# Altium integrated library Microchip Mixed Signal.IntLib: 1063 symbols (part 5 of 28)
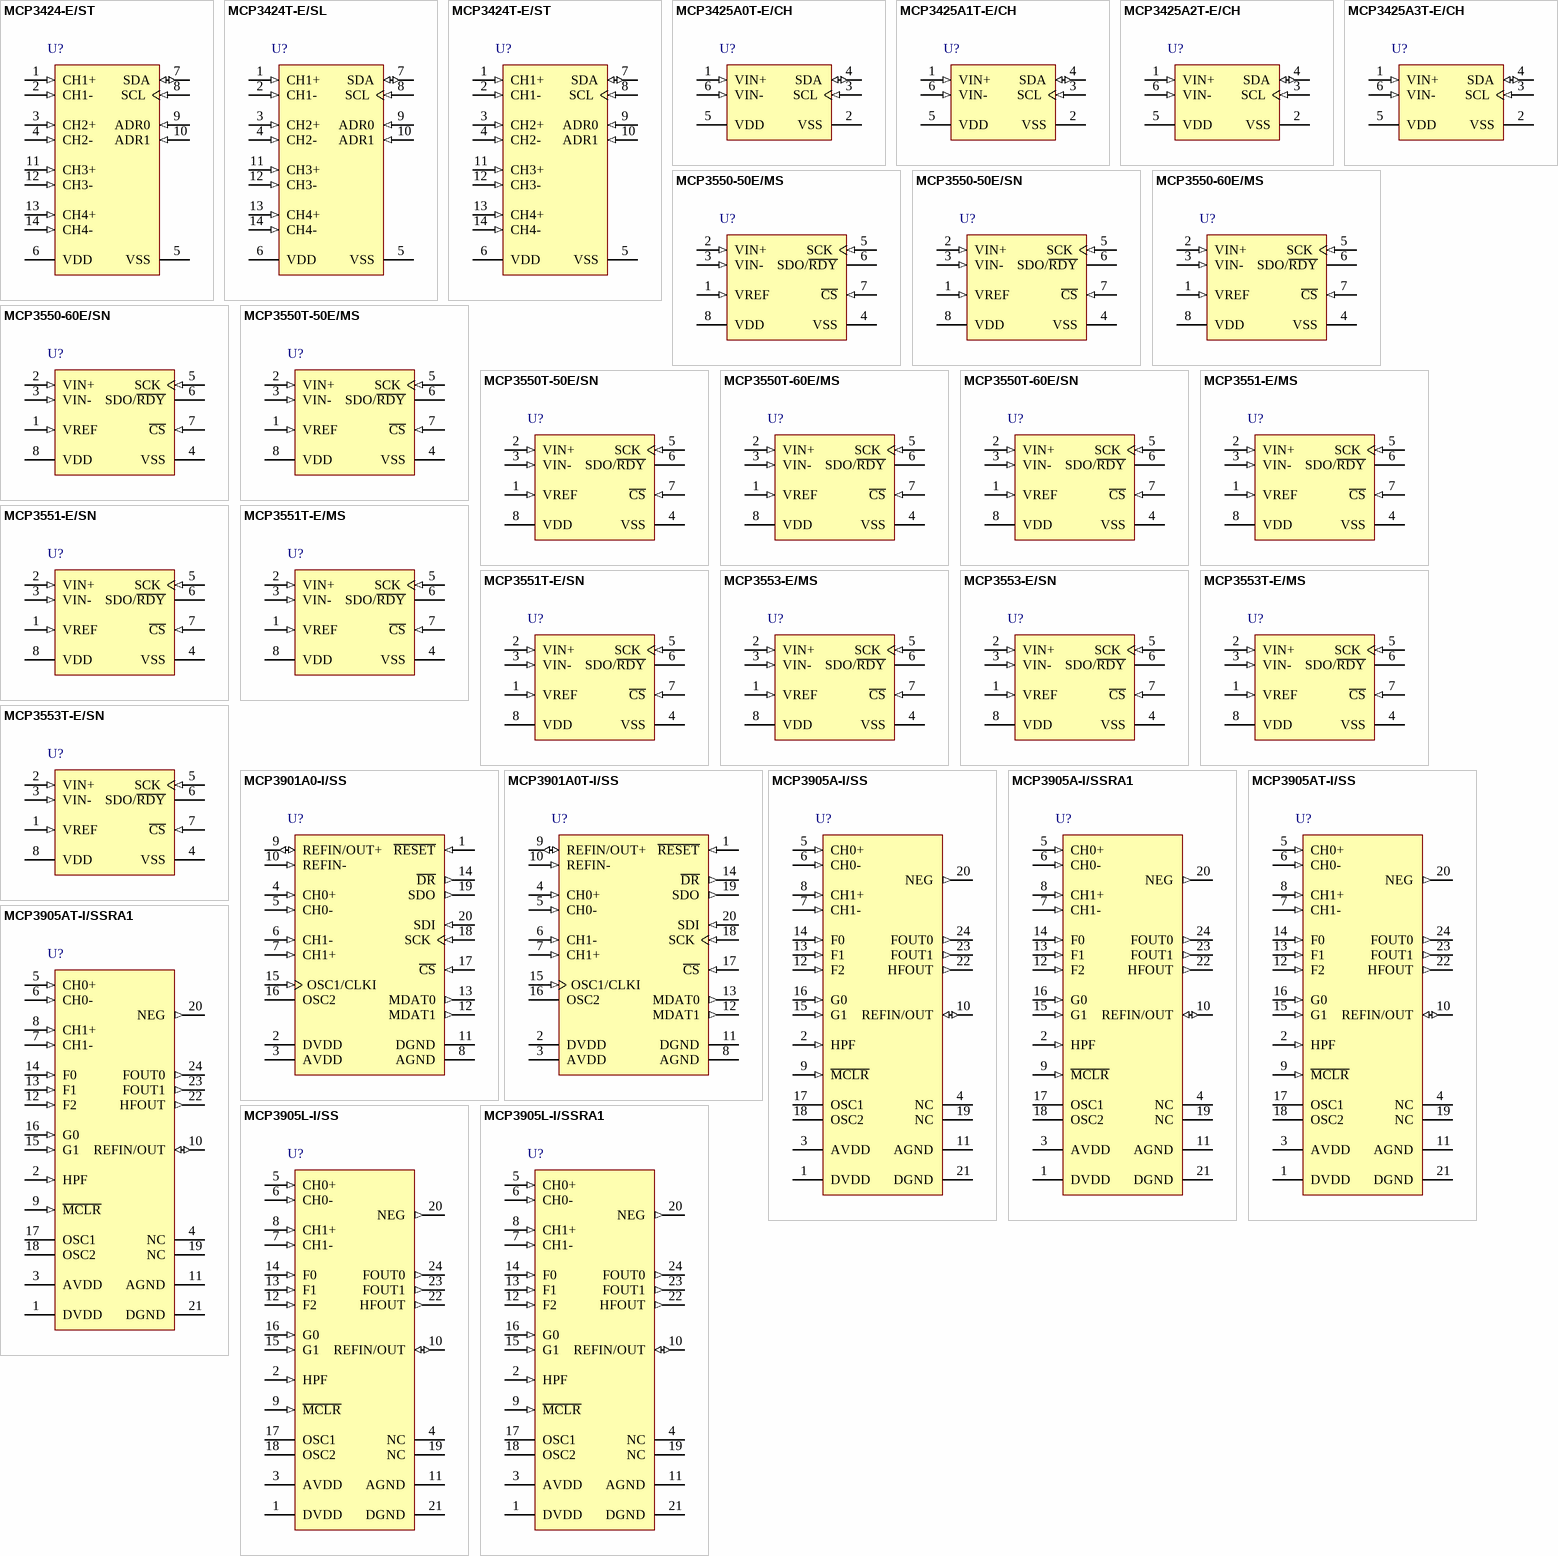
[diagram p35: symbols MCP3424-E/ST to MCP3905L-I/SSRA1]

## MCP3425A0T-E/CH
designator U?
16-Bit Analog-to-Digital Converter with I2C Interface and On-Board Reference, 6-Pin SOT-23, Extended Temperature, Tape and Reel; Published: 29-Jan-2009; LatestRevisionDate: 02-Dec-2009; LatestRevisionNote: Updated to datasheet revision B, Aug-2009; DatasheetVersion: revB, Aug-2009; PackageVersion: revBB, Aug-2009; PackageReference: SOT-23-CH6; Publisher: Altium Limited; PackageDescription: 6-Lead Plastic Small Outline Transistor (CH) [SOT-23]; Supplier 1: Digi-Key; Supplier Part Number 1: MCP3425A0T-E/CHTR-ND; Supplier 2: Digi-Key; Supplier Part Number 2: MCP3425A0T-E/CHCT-ND; Supplier 3: Digi-Key; Supplier Part Number 3: MCP3425A0T-E/CHDKR-ND; Supplier 4: Farnell; Supplier Part Number 4: 1578433; Code_IPC: SOT26A-6; ComponentLink1Description: Datasheet; ComponentLink1URL: http://ww1.microchip.com/downloads/en/DeviceDoc/22072b.pdf; ComponentLink2Description: Packaging Specification; ComponentLink2URL: http://www.microchip.com/stellent/groups/techpub_sg/documents/packagingspec/en012702.pdf; ComponentLink3Description: Microchip.com Home; ComponentLink3URL: http://www.microchip.com/
footprint SOT-23-CH6_N (SOT23, 6-Leads, Body 2.9x1.6mm, Pitch 0.95mm, Lead Span 2.7mm, IPC Medium Density)
footprint SOT-23-CH6_L (SOT23, 6-Leads, Body 2.9x1.6mm, Pitch 0.95mm, Lead Span 2.7mm, IPC High Density)
footprint SOT-23-CH6_M (SOT23, 6-Leads, Body 2.9x1.6mm, Pitch 0.95mm, Lead Span 2.7mm, IPC Low Density)
pins: 1 VIN+ (in), 2 VSS (power), 3 SCL (in), 4 SDA (io), 5 VDD (power), 6 VIN- (in)

## MCP3425A1T-E/CH
designator U?
16-Bit Analog-to-Digital Converter with I2C Interface and On-Board Reference, 6-Pin SOT-23, Extended Temperature, Tape and Reel; Published: 29-Jan-2009; LatestRevisionDate: 02-Dec-2009; LatestRevisionNote: Updated to datasheet revision B, Aug-2009; DatasheetVersion: revB, Aug-2009; PackageVersion: revBB, Aug-2009; PackageReference: SOT-23-CH6; Publisher: Altium Limited; PackageDescription: 6-Lead Plastic Small Outline Transistor (CH) [SOT-23]; Code_IPC: SOT26A-6; ComponentLink1Description: Datasheet; ComponentLink1URL: http://ww1.microchip.com/downloads/en/DeviceDoc/22072b.pdf; ComponentLink2Description: Packaging Specification; ComponentLink2URL: http://www.microchip.com/stellent/groups/techpub_sg/documents/packagingspec/en012702.pdf; ComponentLink3Description: Microchip.com Home; ComponentLink3URL: http://www.microchip.com/
footprint SOT-23-CH6_N (SOT23, 6-Leads, Body 2.9x1.6mm, Pitch 0.95mm, Lead Span 2.7mm, IPC Medium Density)
footprint SOT-23-CH6_L (SOT23, 6-Leads, Body 2.9x1.6mm, Pitch 0.95mm, Lead Span 2.7mm, IPC High Density)
footprint SOT-23-CH6_M (SOT23, 6-Leads, Body 2.9x1.6mm, Pitch 0.95mm, Lead Span 2.7mm, IPC Low Density)
pins: 1 VIN+ (in), 2 VSS (power), 3 SCL (in), 4 SDA (io), 5 VDD (power), 6 VIN- (in)

## MCP3425A2T-E/CH
designator U?
16-Bit Analog-to-Digital Converter with I2C Interface and On-Board Reference, 6-Pin SOT-23, Extended Temperature, Tape and Reel; Published: 29-Jan-2009; LatestRevisionDate: 02-Dec-2009; LatestRevisionNote: Updated to datasheet revision B, Aug-2009; DatasheetVersion: revB, Aug-2009; PackageVersion: revBB, Aug-2009; PackageReference: SOT-23-CH6; Publisher: Altium Limited; PackageDescription: 6-Lead Plastic Small Outline Transistor (CH) [SOT-23]; Code_IPC: SOT26A-6; ComponentLink1Description: Datasheet; ComponentLink1URL: http://ww1.microchip.com/downloads/en/DeviceDoc/22072b.pdf; ComponentLink2Description: Packaging Specification; ComponentLink2URL: http://www.microchip.com/stellent/groups/techpub_sg/documents/packagingspec/en012702.pdf; ComponentLink3Description: Microchip.com Home; ComponentLink3URL: http://www.microchip.com/
footprint SOT-23-CH6_N (SOT23, 6-Leads, Body 2.9x1.6mm, Pitch 0.95mm, Lead Span 2.7mm, IPC Medium Density)
footprint SOT-23-CH6_L (SOT23, 6-Leads, Body 2.9x1.6mm, Pitch 0.95mm, Lead Span 2.7mm, IPC High Density)
footprint SOT-23-CH6_M (SOT23, 6-Leads, Body 2.9x1.6mm, Pitch 0.95mm, Lead Span 2.7mm, IPC Low Density)
pins: 1 VIN+ (in), 2 VSS (power), 3 SCL (in), 4 SDA (io), 5 VDD (power), 6 VIN- (in)

## MCP3425A3T-E/CH
designator U?
16-Bit Analog-to-Digital Converter with I2C Interface and On-Board Reference, 6-Pin SOT-23, Extended Temperature, Tape and Reel; Published: 29-Jan-2009; LatestRevisionDate: 02-Dec-2009; LatestRevisionNote: Updated to datasheet revision B, Aug-2009; DatasheetVersion: revB, Aug-2009; PackageVersion: revBB, Aug-2009; PackageReference: SOT-23-CH6; Publisher: Altium Limited; PackageDescription: 6-Lead Plastic Small Outline Transistor (CH) [SOT-23]; Code_IPC: SOT26A-6; ComponentLink1Description: Datasheet; ComponentLink1URL: http://ww1.microchip.com/downloads/en/DeviceDoc/22072b.pdf; ComponentLink2Description: Packaging Specification; ComponentLink2URL: http://www.microchip.com/stellent/groups/techpub_sg/documents/packagingspec/en012702.pdf; ComponentLink3Description: Microchip.com Home; ComponentLink3URL: http://www.microchip.com/
footprint SOT-23-CH6_N (SOT23, 6-Leads, Body 2.9x1.6mm, Pitch 0.95mm, Lead Span 2.7mm, IPC Medium Density)
footprint SOT-23-CH6_L (SOT23, 6-Leads, Body 2.9x1.6mm, Pitch 0.95mm, Lead Span 2.7mm, IPC High Density)
footprint SOT-23-CH6_M (SOT23, 6-Leads, Body 2.9x1.6mm, Pitch 0.95mm, Lead Span 2.7mm, IPC Low Density)
pins: 1 VIN+ (in), 2 VSS (power), 3 SCL (in), 4 SDA (io), 5 VDD (power), 6 VIN- (in)

## MCP3550-50E/MS
designator U?
Low-Power, Single-Channel 22-Bit Delta-Sigma ADC, 8-Pin MSOP, Extended Temperature; Published: 29-Jan-2009; LatestRevisionDate: 02-Dec-2009; LatestRevisionNote: Updated to datasheet revision E, Apr-2009; DatasheetVersion: revE, Apr-2009; PackageVersion: revBB, Aug-2009; PackageReference: MSOP-MS8; Publisher: Altium Limited; PackageDescription: 8-Lead Plastic Micro Small Outline Package (MS) [MSOP]; Supplier 1: Digi-Key; Supplier Part Number 1: MCP3550-50E/MS-ND; Supplier 2: Farnell; Supplier Part Number 2: 1627198; ComponentLink1Description: Datasheet; ComponentLink1URL: http://ww1.microchip.com/downloads/en/DeviceDoc/21950e.pdf; ComponentLink2Description: Packaging Specification; ComponentLink2URL: http://www.microchip.com/stellent/groups/techpub_sg/documents/packagingspec/en012702.pdf; ComponentLink3Description: Microchip.com Home; ComponentLink3URL: http://www.microchip.com/
footprint MSOP-MS8_N (TSOP, 8-Leads, Body 3x3mm, Pitch 0.65mm, IPC Medium Density)
footprint MSOP-MS8_L (TSOP, 8-Leads, Body 3x3mm, Pitch 0.65mm, IPC High Density)
footprint MSOP-MS8_M (TSOP, 8-Leads, Body 3x3mm, Pitch 0.65mm, IPC Low Density)
pins: 1 VREF (in), 2 VIN+ (in), 3 VIN- (in), 4 VSS (power), 5 SCK (in), 6 SDO/~{RDY} (hiz), 7 ~{CS} (in), 8 VDD (power)

## MCP3550-50E/SN
designator U?
Low-Power, Single-Channel 22-Bit Delta-Sigma ADC, 8-Pin SOIC 150mil, Extended Temperature; Published: 29-Jan-2009; LatestRevisionDate: 02-Dec-2009; LatestRevisionNote: Updated to datasheet revision E, Apr-2009; DatasheetVersion: revE, Apr-2009; PackageVersion: revBB, Aug-2009; PackageReference: SOIC-SN8; Publisher: Altium Limited; PackageDescription: 8-Lead Plastic Small Outline (SN) - Narrow, 3.90mm Body [SOIC]; Supplier 1: Digi-Key; Supplier Part Number 1: MCP3550-50E/SN-ND; Supplier 2: Farnell; Supplier Part Number 2: 1557411; Code_JEDEC: MS-012; Code_IPC: SOIC127P600-8; ComponentLink1Description: Datasheet; ComponentLink1URL: http://ww1.microchip.com/downloads/en/DeviceDoc/21950e.pdf; ComponentLink2Description: Packaging Specification; ComponentLink2URL: http://www.microchip.com/stellent/groups/techpub_sg/documents/packagingspec/en012702.pdf; ComponentLink3Description: Microchip.com Home; ComponentLink3URL: http://www.microchip.com/
footprint SOIC-SN8_N (SOIC, 8-Leads, Body 4.9x3.8mm, Pitch 1.27mm, IPC Medium Density)
footprint SOIC-SN8_L (SOIC, 8-Leads, Body 4.9x3.8mm, Pitch 1.27mm, IPC High Density)
footprint SOIC-SN8_M (SOIC, 8-Leads, Body 4.9x3.8mm, Pitch 1.27mm, IPC Low Density)
pins: 1 VREF (in), 2 VIN+ (in), 3 VIN- (in), 4 VSS (power), 5 SCK (in), 6 SDO/~{RDY} (hiz), 7 ~{CS} (in), 8 VDD (power)

## MCP3550-60E/MS
designator U?
Low-Power, Single-Channel 22-Bit Delta-Sigma ADC, 8-Pin MSOP, Extended Temperature; Published: 29-Jan-2009; LatestRevisionDate: 02-Dec-2009; LatestRevisionNote: Updated to datasheet revision E, Apr-2009; DatasheetVersion: revE, Apr-2009; PackageVersion: revBB, Aug-2009; PackageReference: MSOP-MS8; Publisher: Altium Limited; PackageDescription: 8-Lead Plastic Micro Small Outline Package (MS) [MSOP]; Supplier 1: Digi-Key; Supplier Part Number 1: MCP3550-60E/MS-ND; ComponentLink1Description: Datasheet; ComponentLink1URL: http://ww1.microchip.com/downloads/en/DeviceDoc/21950e.pdf; ComponentLink2Description: Packaging Specification; ComponentLink2URL: http://www.microchip.com/stellent/groups/techpub_sg/documents/packagingspec/en012702.pdf; ComponentLink3Description: Microchip.com Home; ComponentLink3URL: http://www.microchip.com/
footprint MSOP-MS8_N (TSOP, 8-Leads, Body 3x3mm, Pitch 0.65mm, IPC Medium Density)
footprint MSOP-MS8_L (TSOP, 8-Leads, Body 3x3mm, Pitch 0.65mm, IPC High Density)
footprint MSOP-MS8_M (TSOP, 8-Leads, Body 3x3mm, Pitch 0.65mm, IPC Low Density)
pins: 1 VREF (in), 2 VIN+ (in), 3 VIN- (in), 4 VSS (power), 5 SCK (in), 6 SDO/~{RDY} (hiz), 7 ~{CS} (in), 8 VDD (power)

## MCP3550-60E/SN
designator U?
Low-Power, Single-Channel 22-Bit Delta-Sigma ADC, 8-Pin SOIC 150mil, Extended Temperature; Published: 29-Jan-2009; LatestRevisionDate: 02-Dec-2009; LatestRevisionNote: Updated to datasheet revision E, Apr-2009; DatasheetVersion: revE, Apr-2009; PackageVersion: revBB, Aug-2009; PackageReference: SOIC-SN8; Publisher: Altium Limited; PackageDescription: 8-Lead Plastic Small Outline (SN) - Narrow, 3.90mm Body [SOIC]; Supplier 1: Digi-Key; Supplier Part Number 1: MCP3550-60E/SN-ND; Code_JEDEC: MS-012; Code_IPC: SOIC127P600-8; ComponentLink1Description: Datasheet; ComponentLink1URL: http://ww1.microchip.com/downloads/en/DeviceDoc/21950e.pdf; ComponentLink2Description: Packaging Specification; ComponentLink2URL: http://www.microchip.com/stellent/groups/techpub_sg/documents/packagingspec/en012702.pdf; ComponentLink3Description: Microchip.com Home; ComponentLink3URL: http://www.microchip.com/
footprint SOIC-SN8_N (SOIC, 8-Leads, Body 4.9x3.8mm, Pitch 1.27mm, IPC Medium Density)
footprint SOIC-SN8_L (SOIC, 8-Leads, Body 4.9x3.8mm, Pitch 1.27mm, IPC High Density)
footprint SOIC-SN8_M (SOIC, 8-Leads, Body 4.9x3.8mm, Pitch 1.27mm, IPC Low Density)
pins: 1 VREF (in), 2 VIN+ (in), 3 VIN- (in), 4 VSS (power), 5 SCK (in), 6 SDO/~{RDY} (hiz), 7 ~{CS} (in), 8 VDD (power)

## MCP3550T-50E/MS
designator U?
Low-Power, Single-Channel 22-Bit Delta-Sigma ADC, 8-Pin MSOP, Extended Temperature, Tape and Reel; Published: 29-Jan-2009; LatestRevisionDate: 02-Dec-2009; LatestRevisionNote: Updated to datasheet revision E, Apr-2009; DatasheetVersion: revE, Apr-2009; PackageVersion: revBB, Aug-2009; PackageReference: MSOP-MS8; Publisher: Altium Limited; PackageDescription: 8-Lead Plastic Micro Small Outline Package (MS) [MSOP]; Supplier 1: Digi-Key; Supplier Part Number 1: MCP3550T-50E/MS-ND; ComponentLink1Description: Datasheet; ComponentLink1URL: http://ww1.microchip.com/downloads/en/DeviceDoc/21950e.pdf; ComponentLink2Description: Packaging Specification; ComponentLink2URL: http://www.microchip.com/stellent/groups/techpub_sg/documents/packagingspec/en012702.pdf; ComponentLink3Description: Microchip.com Home; ComponentLink3URL: http://www.microchip.com/
footprint MSOP-MS8_N (TSOP, 8-Leads, Body 3x3mm, Pitch 0.65mm, IPC Medium Density)
footprint MSOP-MS8_L (TSOP, 8-Leads, Body 3x3mm, Pitch 0.65mm, IPC High Density)
footprint MSOP-MS8_M (TSOP, 8-Leads, Body 3x3mm, Pitch 0.65mm, IPC Low Density)
pins: 1 VREF (in), 2 VIN+ (in), 3 VIN- (in), 4 VSS (power), 5 SCK (in), 6 SDO/~{RDY} (hiz), 7 ~{CS} (in), 8 VDD (power)

## MCP3550T-50E/SN
designator U?
Low-Power, Single-Channel 22-Bit Delta-Sigma ADC, 8-Pin SOIC 150mil, Extended Temperature, Tape and Reel; Published: 29-Jan-2009; LatestRevisionDate: 02-Dec-2009; LatestRevisionNote: Updated to datasheet revision E, Apr-2009; DatasheetVersion: revE, Apr-2009; PackageVersion: revBB, Aug-2009; PackageReference: SOIC-SN8; Publisher: Altium Limited; PackageDescription: 8-Lead Plastic Small Outline (SN) - Narrow, 3.90mm Body [SOIC]; Supplier 1: Digi-Key; Supplier Part Number 1: MCP3550T-50E/SN-ND; Code_JEDEC: MS-012; Code_IPC: SOIC127P600-8; ComponentLink1Description: Datasheet; ComponentLink1URL: http://ww1.microchip.com/downloads/en/DeviceDoc/21950e.pdf; ComponentLink2Description: Packaging Specification; ComponentLink2URL: http://www.microchip.com/stellent/groups/techpub_sg/documents/packagingspec/en012702.pdf; ComponentLink3Description: Microchip.com Home; ComponentLink3URL: http://www.microchip.com/
footprint SOIC-SN8_N (SOIC, 8-Leads, Body 4.9x3.8mm, Pitch 1.27mm, IPC Medium Density)
footprint SOIC-SN8_L (SOIC, 8-Leads, Body 4.9x3.8mm, Pitch 1.27mm, IPC High Density)
footprint SOIC-SN8_M (SOIC, 8-Leads, Body 4.9x3.8mm, Pitch 1.27mm, IPC Low Density)
pins: 1 VREF (in), 2 VIN+ (in), 3 VIN- (in), 4 VSS (power), 5 SCK (in), 6 SDO/~{RDY} (hiz), 7 ~{CS} (in), 8 VDD (power)

## MCP3550T-60E/MS
designator U?
Low-Power, Single-Channel 22-Bit Delta-Sigma ADC, 8-Pin MSOP, Extended Temperature, Tape and Reel; Published: 29-Jan-2009; LatestRevisionDate: 02-Dec-2009; LatestRevisionNote: Updated to datasheet revision E, Apr-2009; DatasheetVersion: revE, Apr-2009; PackageVersion: revBB, Aug-2009; PackageReference: MSOP-MS8; Publisher: Altium Limited; PackageDescription: 8-Lead Plastic Micro Small Outline Package (MS) [MSOP]; Supplier 1: Digi-Key; Supplier Part Number 1: MCP3550T-60E/MS-ND; ComponentLink1Description: Datasheet; ComponentLink1URL: http://ww1.microchip.com/downloads/en/DeviceDoc/21950e.pdf; ComponentLink2Description: Packaging Specification; ComponentLink2URL: http://www.microchip.com/stellent/groups/techpub_sg/documents/packagingspec/en012702.pdf; ComponentLink3Description: Microchip.com Home; ComponentLink3URL: http://www.microchip.com/
footprint MSOP-MS8_N (TSOP, 8-Leads, Body 3x3mm, Pitch 0.65mm, IPC Medium Density)
footprint MSOP-MS8_L (TSOP, 8-Leads, Body 3x3mm, Pitch 0.65mm, IPC High Density)
footprint MSOP-MS8_M (TSOP, 8-Leads, Body 3x3mm, Pitch 0.65mm, IPC Low Density)
pins: 1 VREF (in), 2 VIN+ (in), 3 VIN- (in), 4 VSS (power), 5 SCK (in), 6 SDO/~{RDY} (hiz), 7 ~{CS} (in), 8 VDD (power)

## MCP3550T-60E/SN
designator U?
Low-Power, Single-Channel 22-Bit Delta-Sigma ADC, 8-Pin SOIC 150mil, Extended Temperature, Tape and Reel; Published: 29-Jan-2009; LatestRevisionDate: 02-Dec-2009; LatestRevisionNote: Updated to datasheet revision E, Apr-2009; DatasheetVersion: revE, Apr-2009; PackageVersion: revBB, Aug-2009; PackageReference: SOIC-SN8; Publisher: Altium Limited; PackageDescription: 8-Lead Plastic Small Outline (SN) - Narrow, 3.90mm Body [SOIC]; Supplier 1: Digi-Key; Supplier Part Number 1: MCP3550T-60E/SN-ND; Code_JEDEC: MS-012; Code_IPC: SOIC127P600-8; ComponentLink1Description: Datasheet; ComponentLink1URL: http://ww1.microchip.com/downloads/en/DeviceDoc/21950e.pdf; ComponentLink2Description: Packaging Specification; ComponentLink2URL: http://www.microchip.com/stellent/groups/techpub_sg/documents/packagingspec/en012702.pdf; ComponentLink3Description: Microchip.com Home; ComponentLink3URL: http://www.microchip.com/
footprint SOIC-SN8_N (SOIC, 8-Leads, Body 4.9x3.8mm, Pitch 1.27mm, IPC Medium Density)
footprint SOIC-SN8_L (SOIC, 8-Leads, Body 4.9x3.8mm, Pitch 1.27mm, IPC High Density)
footprint SOIC-SN8_M (SOIC, 8-Leads, Body 4.9x3.8mm, Pitch 1.27mm, IPC Low Density)
pins: 1 VREF (in), 2 VIN+ (in), 3 VIN- (in), 4 VSS (power), 5 SCK (in), 6 SDO/~{RDY} (hiz), 7 ~{CS} (in), 8 VDD (power)

## MCP3551-E/MS
designator U?
Low-Power, Single-Channel 22-Bit Delta-Sigma ADC, 8-Pin MSOP, Extended Temperature; Published: 29-Jan-2009; LatestRevisionDate: 02-Dec-2009; LatestRevisionNote: Updated to datasheet revision E, Apr-2009; DatasheetVersion: revE, Apr-2009; PackageVersion: revBB, Aug-2009; PackageReference: MSOP-MS8; Publisher: Altium Limited; PackageDescription: 8-Lead Plastic Micro Small Outline Package (MS) [MSOP]; Supplier 1: Digi-Key; Supplier Part Number 1: MCP3551-E/MS-ND; Supplier 2: Farnell; Supplier Part Number 2: 1084624; ComponentLink1Description: Datasheet; ComponentLink1URL: http://ww1.microchip.com/downloads/en/DeviceDoc/21950e.pdf; ComponentLink2Description: Packaging Specification; ComponentLink2URL: http://www.microchip.com/stellent/groups/techpub_sg/documents/packagingspec/en012702.pdf; ComponentLink3Description: Microchip.com Home; ComponentLink3URL: http://www.microchip.com/
footprint MSOP-MS8_N (TSOP, 8-Leads, Body 3x3mm, Pitch 0.65mm, IPC Medium Density)
footprint MSOP-MS8_L (TSOP, 8-Leads, Body 3x3mm, Pitch 0.65mm, IPC High Density)
footprint MSOP-MS8_M (TSOP, 8-Leads, Body 3x3mm, Pitch 0.65mm, IPC Low Density)
pins: 1 VREF (in), 2 VIN+ (in), 3 VIN- (in), 4 VSS (power), 5 SCK (in), 6 SDO/~{RDY} (hiz), 7 ~{CS} (in), 8 VDD (power)

## MCP3551-E/SN
designator U?
Low-Power, Single-Channel 22-Bit Delta-Sigma ADC, 8-Pin SOIC 150mil, Extended Temperature; Published: 29-Jan-2009; LatestRevisionDate: 02-Dec-2009; LatestRevisionNote: Updated to datasheet revision E, Apr-2009; DatasheetVersion: revE, Apr-2009; PackageVersion: revBB, Aug-2009; PackageReference: SOIC-SN8; Publisher: Altium Limited; PackageDescription: 8-Lead Plastic Small Outline (SN) - Narrow, 3.90mm Body [SOIC]; Supplier 1: Digi-Key; Supplier Part Number 1: MCP3551-E/SN-ND; Supplier 2: Farnell; Supplier Part Number 2: 1084625; Code_JEDEC: MS-012; Code_IPC: SOIC127P600-8; ComponentLink1Description: Datasheet; ComponentLink1URL: http://ww1.microchip.com/downloads/en/DeviceDoc/21950e.pdf; ComponentLink2Description: Packaging Specification; ComponentLink2URL: http://www.microchip.com/stellent/groups/techpub_sg/documents/packagingspec/en012702.pdf; ComponentLink3Description: Microchip.com Home; ComponentLink3URL: http://www.microchip.com/
footprint SOIC-SN8_N (SOIC, 8-Leads, Body 4.9x3.8mm, Pitch 1.27mm, IPC Medium Density)
footprint SOIC-SN8_L (SOIC, 8-Leads, Body 4.9x3.8mm, Pitch 1.27mm, IPC High Density)
footprint SOIC-SN8_M (SOIC, 8-Leads, Body 4.9x3.8mm, Pitch 1.27mm, IPC Low Density)
pins: 1 VREF (in), 2 VIN+ (in), 3 VIN- (in), 4 VSS (power), 5 SCK (in), 6 SDO/~{RDY} (hiz), 7 ~{CS} (in), 8 VDD (power)

## MCP3551T-E/MS
designator U?
Low-Power, Single-Channel 22-Bit Delta-Sigma ADC, 8-Pin MSOP, Extended Temperature, Tape and Reel; Published: 29-Jan-2009; LatestRevisionDate: 02-Dec-2009; LatestRevisionNote: Updated to datasheet revision E, Apr-2009; DatasheetVersion: revE, Apr-2009; PackageVersion: revBB, Aug-2009; PackageReference: MSOP-MS8; Publisher: Altium Limited; PackageDescription: 8-Lead Plastic Micro Small Outline Package (MS) [MSOP]; Supplier 1: Digi-Key; Supplier Part Number 1: MCP3551T-E/MS-ND; ComponentLink1Description: Datasheet; ComponentLink1URL: http://ww1.microchip.com/downloads/en/DeviceDoc/21950e.pdf; ComponentLink2Description: Packaging Specification; ComponentLink2URL: http://www.microchip.com/stellent/groups/techpub_sg/documents/packagingspec/en012702.pdf; ComponentLink3Description: Microchip.com Home; ComponentLink3URL: http://www.microchip.com/
footprint MSOP-MS8_N (TSOP, 8-Leads, Body 3x3mm, Pitch 0.65mm, IPC Medium Density)
footprint MSOP-MS8_L (TSOP, 8-Leads, Body 3x3mm, Pitch 0.65mm, IPC High Density)
footprint MSOP-MS8_M (TSOP, 8-Leads, Body 3x3mm, Pitch 0.65mm, IPC Low Density)
pins: 1 VREF (in), 2 VIN+ (in), 3 VIN- (in), 4 VSS (power), 5 SCK (in), 6 SDO/~{RDY} (hiz), 7 ~{CS} (in), 8 VDD (power)

## MCP3551T-E/SN
designator U?
Low-Power, Single-Channel 22-Bit Delta-Sigma ADC, 8-Pin SOIC 150mil, Extended Temperature, Tape and Reel; Published: 29-Jan-2009; LatestRevisionDate: 02-Dec-2009; LatestRevisionNote: Updated to datasheet revision E, Apr-2009; DatasheetVersion: revE, Apr-2009; PackageVersion: revBB, Aug-2009; PackageReference: SOIC-SN8; Publisher: Altium Limited; PackageDescription: 8-Lead Plastic Small Outline (SN) - Narrow, 3.90mm Body [SOIC]; Supplier 1: Digi-Key; Supplier Part Number 1: MCP3551T-E/SN-ND; Code_JEDEC: MS-012; Code_IPC: SOIC127P600-8; ComponentLink1Description: Datasheet; ComponentLink1URL: http://ww1.microchip.com/downloads/en/DeviceDoc/21950e.pdf; ComponentLink2Description: Packaging Specification; ComponentLink2URL: http://www.microchip.com/stellent/groups/techpub_sg/documents/packagingspec/en012702.pdf; ComponentLink3Description: Microchip.com Home; ComponentLink3URL: http://www.microchip.com/
footprint SOIC-SN8_N (SOIC, 8-Leads, Body 4.9x3.8mm, Pitch 1.27mm, IPC Medium Density)
footprint SOIC-SN8_L (SOIC, 8-Leads, Body 4.9x3.8mm, Pitch 1.27mm, IPC High Density)
footprint SOIC-SN8_M (SOIC, 8-Leads, Body 4.9x3.8mm, Pitch 1.27mm, IPC Low Density)
pins: 1 VREF (in), 2 VIN+ (in), 3 VIN- (in), 4 VSS (power), 5 SCK (in), 6 SDO/~{RDY} (hiz), 7 ~{CS} (in), 8 VDD (power)

## MCP3553-E/MS
designator U?
Low-Power, Single-Channel 22-Bit Delta-Sigma ADC, 8-Pin MSOP, Extended Temperature; Published: 29-Jan-2009; LatestRevisionDate: 02-Dec-2009; LatestRevisionNote: Updated to datasheet revision E, Apr-2009; DatasheetVersion: revE, Apr-2009; PackageVersion: revBB, Aug-2009; PackageReference: MSOP-MS8; Publisher: Altium Limited; PackageDescription: 8-Lead Plastic Micro Small Outline Package (MS) [MSOP]; Supplier 1: Digi-Key; Supplier Part Number 1: MCP3553-E/MS-ND; Supplier 2: Farnell; Supplier Part Number 2: 1439515; ComponentLink1Description: Datasheet; ComponentLink1URL: http://ww1.microchip.com/downloads/en/DeviceDoc/21950e.pdf; ComponentLink2Description: Packaging Specification; ComponentLink2URL: http://www.microchip.com/stellent/groups/techpub_sg/documents/packagingspec/en012702.pdf; ComponentLink3Description: Microchip.com Home; ComponentLink3URL: http://www.microchip.com/
footprint MSOP-MS8_N (TSOP, 8-Leads, Body 3x3mm, Pitch 0.65mm, IPC Medium Density)
footprint MSOP-MS8_L (TSOP, 8-Leads, Body 3x3mm, Pitch 0.65mm, IPC High Density)
footprint MSOP-MS8_M (TSOP, 8-Leads, Body 3x3mm, Pitch 0.65mm, IPC Low Density)
pins: 1 VREF (in), 2 VIN+ (in), 3 VIN- (in), 4 VSS (power), 5 SCK (in), 6 SDO/~{RDY} (hiz), 7 ~{CS} (in), 8 VDD (power)

## MCP3553-E/SN
designator U?
Low-Power, Single-Channel 22-Bit Delta-Sigma ADC, 8-Pin SOIC 150mil, Extended Temperature; Published: 29-Jan-2009; LatestRevisionDate: 02-Dec-2009; LatestRevisionNote: Updated to datasheet revision E, Apr-2009; DatasheetVersion: revE, Apr-2009; PackageVersion: revBB, Aug-2009; PackageReference: SOIC-SN8; Publisher: Altium Limited; PackageDescription: 8-Lead Plastic Small Outline (SN) - Narrow, 3.90mm Body [SOIC]; Supplier 1: Digi-Key; Supplier Part Number 1: MCP3553-E/SN-ND; Supplier 2: Farnell; Supplier Part Number 2: 1605569; Code_JEDEC: MS-012; Code_IPC: SOIC127P600-8; ComponentLink1Description: Datasheet; ComponentLink1URL: http://ww1.microchip.com/downloads/en/DeviceDoc/21950e.pdf; ComponentLink2Description: Packaging Specification; ComponentLink2URL: http://www.microchip.com/stellent/groups/techpub_sg/documents/packagingspec/en012702.pdf; ComponentLink3Description: Microchip.com Home; ComponentLink3URL: http://www.microchip.com/
footprint SOIC-SN8_N (SOIC, 8-Leads, Body 4.9x3.8mm, Pitch 1.27mm, IPC Medium Density)
footprint SOIC-SN8_L (SOIC, 8-Leads, Body 4.9x3.8mm, Pitch 1.27mm, IPC High Density)
footprint SOIC-SN8_M (SOIC, 8-Leads, Body 4.9x3.8mm, Pitch 1.27mm, IPC Low Density)
pins: 1 VREF (in), 2 VIN+ (in), 3 VIN- (in), 4 VSS (power), 5 SCK (in), 6 SDO/~{RDY} (hiz), 7 ~{CS} (in), 8 VDD (power)

## MCP3553T-E/MS
designator U?
Low-Power, Single-Channel 22-Bit Delta-Sigma ADC, 8-Pin MSOP, Extended Temperature, Tape and Reel; Published: 29-Jan-2009; LatestRevisionDate: 02-Dec-2009; LatestRevisionNote: Updated to datasheet revision E, Apr-2009; DatasheetVersion: revE, Apr-2009; PackageVersion: revBB, Aug-2009; PackageReference: MSOP-MS8; Publisher: Altium Limited; PackageDescription: 8-Lead Plastic Micro Small Outline Package (MS) [MSOP]; Supplier 1: Digi-Key; Supplier Part Number 1: MCP3553T-E/MS-ND; ComponentLink1Description: Datasheet; ComponentLink1URL: http://ww1.microchip.com/downloads/en/DeviceDoc/21950e.pdf; ComponentLink2Description: Packaging Specification; ComponentLink2URL: http://www.microchip.com/stellent/groups/techpub_sg/documents/packagingspec/en012702.pdf; ComponentLink3Description: Microchip.com Home; ComponentLink3URL: http://www.microchip.com/
footprint MSOP-MS8_N (TSOP, 8-Leads, Body 3x3mm, Pitch 0.65mm, IPC Medium Density)
footprint MSOP-MS8_L (TSOP, 8-Leads, Body 3x3mm, Pitch 0.65mm, IPC High Density)
footprint MSOP-MS8_M (TSOP, 8-Leads, Body 3x3mm, Pitch 0.65mm, IPC Low Density)
pins: 1 VREF (in), 2 VIN+ (in), 3 VIN- (in), 4 VSS (power), 5 SCK (in), 6 SDO/~{RDY} (hiz), 7 ~{CS} (in), 8 VDD (power)

## MCP3553T-E/SN
designator U?
Low-Power, Single-Channel 22-Bit Delta-Sigma ADC, 8-Pin SOIC 150mil, Extended Temperature, Tape and Reel; Published: 29-Jan-2009; LatestRevisionDate: 02-Dec-2009; LatestRevisionNote: Updated to datasheet revision E, Apr-2009; DatasheetVersion: revE, Apr-2009; PackageVersion: revBB, Aug-2009; PackageReference: SOIC-SN8; Publisher: Altium Limited; PackageDescription: 8-Lead Plastic Small Outline (SN) - Narrow, 3.90mm Body [SOIC]; Supplier 1: Digi-Key; Supplier Part Number 1: MCP3553T-E/SN-ND; Code_JEDEC: MS-012; Code_IPC: SOIC127P600-8; ComponentLink1Description: Datasheet; ComponentLink1URL: http://ww1.microchip.com/downloads/en/DeviceDoc/21950e.pdf; ComponentLink2Description: Packaging Specification; ComponentLink2URL: http://www.microchip.com/stellent/groups/techpub_sg/documents/packagingspec/en012702.pdf; ComponentLink3Description: Microchip.com Home; ComponentLink3URL: http://www.microchip.com/
footprint SOIC-SN8_N (SOIC, 8-Leads, Body 4.9x3.8mm, Pitch 1.27mm, IPC Medium Density)
footprint SOIC-SN8_L (SOIC, 8-Leads, Body 4.9x3.8mm, Pitch 1.27mm, IPC High Density)
footprint SOIC-SN8_M (SOIC, 8-Leads, Body 4.9x3.8mm, Pitch 1.27mm, IPC Low Density)
pins: 1 VREF (in), 2 VIN+ (in), 3 VIN- (in), 4 VSS (power), 5 SCK (in), 6 SDO/~{RDY} (hiz), 7 ~{CS} (in), 8 VDD (power)

## MCP3901A0-I/SS
designator U?
Two Channel Analog Front End, 20-pin SSOP, Industrial Temperature; Published: 2-Dec-2009; DatasheetVersion: revB, Nov-2009; PackageVersion: revBB, Aug-2009; PackageReference: SSOP-SS20; Publisher: Altium Limited; PackageDescription: 20-Lead Plastic Shrink Small Outline (SS) - 5.3mm Body [SSOP]; Supplier 1: Digi-Key; Supplier Part Number 1: MCP3901A0-I/SS-ND; Supplier 2: Farnell; Supplier Part Number 2: 1783641; Supplier 3: Farnell; Supplier Part Number 3: 1825015; Code_JEDEC: MO-150; Code_IPC: SOP65P780-20; ComponentLink1Description: Datasheet; ComponentLink1URL: http://ww1.microchip.com/downloads/en/DeviceDoc/22192b.pdf; ComponentLink2Description: Packaging Specification; ComponentLink2URL: http://www.microchip.com/stellent/groups/techpub_sg/documents/packagingspec/en012702.pdf; ComponentLink3Description: Microchip.com Home; ComponentLink3URL: http://www.microchip.com/
footprint SSOP-SS20_N (SOP, 20-Leads, Body 7.2x5.2mm, Pitch 0.65mm, IPC Medium Density)
footprint SSOP-SS20_L (SOP, 20-Leads, Body 7.2x5.2mm, Pitch 0.65mm, IPC High Density)
footprint SSOP-SS20_M (SOP, 20-Leads, Body 7.2x5.2mm, Pitch 0.65mm, IPC Low Density)
pins: 1 ~{RESET} (in), 2 DVDD (power), 3 AVDD (power), 4 CH0+ (in), 5 CH0- (in), 6 CH1- (in), 7 CH1+ (in), 8 AGND (power), 9 REFIN/OUT+ (io), 10 REFIN- (in), 11 DGND (power), 12 MDAT1 (out), 13 MDAT0 (out), 14 ~{DR} (out), 15 OSC1/CLKI (in), 16 OSC2, 17 ~{CS} (in), 18 SCK (in), 19 SDO (out), 20 SDI (in)

## MCP3901A0T-I/SS
designator U?
Two Channel Analog Front End, 20-pin SSOP, Industrial Temperature, Tape and Reel; Published: 2-Dec-2009; DatasheetVersion: revB, Nov-2009; PackageVersion: revBB, Aug-2009; PackageReference: SSOP-SS20; Publisher: Altium Limited; PackageDescription: 20-Lead Plastic Shrink Small Outline (SS) - 5.3mm Body [SSOP]; Supplier 1: Digi-Key; Supplier Part Number 1: MCP3901A0T-I/SS-ND; Code_JEDEC: MO-150; Code_IPC: SOP65P780-20; ComponentLink1Description: Datasheet; ComponentLink1URL: http://ww1.microchip.com/downloads/en/DeviceDoc/22192b.pdf; ComponentLink2Description: Packaging Specification; ComponentLink2URL: http://www.microchip.com/stellent/groups/techpub_sg/documents/packagingspec/en012702.pdf; ComponentLink3Description: Microchip.com Home; ComponentLink3URL: http://www.microchip.com/
footprint SSOP-SS20_N (SOP, 20-Leads, Body 7.2x5.2mm, Pitch 0.65mm, IPC Medium Density)
footprint SSOP-SS20_L (SOP, 20-Leads, Body 7.2x5.2mm, Pitch 0.65mm, IPC High Density)
footprint SSOP-SS20_M (SOP, 20-Leads, Body 7.2x5.2mm, Pitch 0.65mm, IPC Low Density)
pins: 1 ~{RESET} (in), 2 DVDD (power), 3 AVDD (power), 4 CH0+ (in), 5 CH0- (in), 6 CH1- (in), 7 CH1+ (in), 8 AGND (power), 9 REFIN/OUT+ (io), 10 REFIN- (in), 11 DGND (power), 12 MDAT1 (out), 13 MDAT0 (out), 14 ~{DR} (out), 15 OSC1/CLKI (in), 16 OSC2, 17 ~{CS} (in), 18 SCK (in), 19 SDO (out), 20 SDI (in)

## MCP3905A-I/SS
designator U?
Energy Metering ICs with Active Real Power Pulse Output, 24-Pin SSOP 208mil, Industrial Temperature; Published: 29-Jan-2009; DatasheetVersion: revA, Sep-2006; PackageVersion: revBB, Aug-2009; PackageReference: SSOP-SS24; Publisher: Altium Limited; PackageDescription: 24-Lead Plastic Shrink Small Outline (SS) - 5.3mm Body [SSOP]; Supplier 1: Digi-Key; Supplier Part Number 1: MCP3905A-I/SS-ND; Supplier 2: Farnell; Supplier Part Number 2: 1439398; Code_JEDEC: MO-150-AG; Code_IPC: SOP65P780-24; ComponentLink1Description: Datasheet; ComponentLink1URL: http://ww1.microchip.com/downloads/en/DeviceDoc/22011a.pdf; ComponentLink2Description: Packaging Specification; ComponentLink2URL: http://www.microchip.com/stellent/groups/techpub_sg/documents/packagingspec/en012702.pdf; ComponentLink3Description: Microchip.com Home; ComponentLink3URL: http://www.microchip.com/
footprint SSOP-SS24_N (SOP, 24-Leads, Body 8.2x5.3mm, Pitch 0.65mm, IPC Medium Density)
footprint SSOP-SS24_L (SOP, 24-Leads, Body 8.2x5.3mm, Pitch 0.65mm, IPC High Density)
footprint SSOP-SS24_M (SOP, 24-Leads, Body 8.2x5.3mm, Pitch 0.65mm, IPC Low Density)
pins: 1 DVDD (power), 2 HPF (in), 3 AVDD (power), 4 NC, 5 CH0+ (in), 6 CH0- (in), 7 CH1- (in), 8 CH1+ (in), 9 ~{MCLR} (in), 10 REFIN/OUT (io), 11 AGND (power), 12 F2 (in), 13 F1 (in), 14 F0 (in), 15 G1 (in), 16 G0 (in), 17 OSC1, 18 OSC2, 19 NC, 20 NEG (out), 21 DGND (power), 22 HFOUT (out), 23 FOUT1 (out), 24 FOUT0 (out)

## MCP3905A-I/SSRA1
designator U?
Energy Metering ICs with Active Real Power Pulse Output, 24-Pin SSOP 208mil, Industrial Temperature; ComponentAvailability: Unknown. Contact manufacturer to determine status.; Published: 29-Jan-2009; DatasheetVersion: revA, Sep-2006; PackageVersion: revBB, Aug-2009; PackageReference: SSOP-SS24; Publisher: Altium Limited; PackageDescription: 24-Lead Plastic Shrink Small Outline (SS) - 5.3mm Body [SSOP]; Code_JEDEC: MO-150-AG; Code_IPC: SOP65P780-24; ComponentLink1Description: Datasheet; ComponentLink1URL: http://ww1.microchip.com/downloads/en/DeviceDoc/22011a.pdf; ComponentLink2Description: Packaging Specification; ComponentLink2URL: http://www.microchip.com/stellent/groups/techpub_sg/documents/packagingspec/en012702.pdf; ComponentLink3Description: Microchip.com Home; ComponentLink3URL: http://www.microchip.com/
footprint SSOP-SS24_N (SOP, 24-Leads, Body 8.2x5.3mm, Pitch 0.65mm, IPC Medium Density)
footprint SSOP-SS24_L (SOP, 24-Leads, Body 8.2x5.3mm, Pitch 0.65mm, IPC High Density)
footprint SSOP-SS24_M (SOP, 24-Leads, Body 8.2x5.3mm, Pitch 0.65mm, IPC Low Density)
pins: 1 DVDD (power), 2 HPF (in), 3 AVDD (power), 4 NC, 5 CH0+ (in), 6 CH0- (in), 7 CH1- (in), 8 CH1+ (in), 9 ~{MCLR} (in), 10 REFIN/OUT (io), 11 AGND (power), 12 F2 (in), 13 F1 (in), 14 F0 (in), 15 G1 (in), 16 G0 (in), 17 OSC1, 18 OSC2, 19 NC, 20 NEG (out), 21 DGND (power), 22 HFOUT (out), 23 FOUT1 (out), 24 FOUT0 (out)

## MCP3905AT-I/SS
designator U?
Energy Metering ICs with Active Real Power Pulse Output, 24-Pin SSOP 208mil, Industrial Temperature, Tape and Reel; Published: 29-Jan-2009; DatasheetVersion: revA, Sep-2006; PackageVersion: revBB, Aug-2009; PackageReference: SSOP-SS24; Publisher: Altium Limited; PackageDescription: 24-Lead Plastic Shrink Small Outline (SS) - 5.3mm Body [SSOP]; Supplier 1: Digi-Key; Supplier Part Number 1: MCP3905AT-I/SS-ND; Code_JEDEC: MO-150-AG; Code_IPC: SOP65P780-24; ComponentLink1Description: Datasheet; ComponentLink1URL: http://ww1.microchip.com/downloads/en/DeviceDoc/22011a.pdf; ComponentLink2Description: Packaging Specification; ComponentLink2URL: http://www.microchip.com/stellent/groups/techpub_sg/documents/packagingspec/en012702.pdf; ComponentLink3Description: Microchip.com Home; ComponentLink3URL: http://www.microchip.com/
footprint SSOP-SS24_N (SOP, 24-Leads, Body 8.2x5.3mm, Pitch 0.65mm, IPC Medium Density)
footprint SSOP-SS24_L (SOP, 24-Leads, Body 8.2x5.3mm, Pitch 0.65mm, IPC High Density)
footprint SSOP-SS24_M (SOP, 24-Leads, Body 8.2x5.3mm, Pitch 0.65mm, IPC Low Density)
pins: 1 DVDD (power), 2 HPF (in), 3 AVDD (power), 4 NC, 5 CH0+ (in), 6 CH0- (in), 7 CH1- (in), 8 CH1+ (in), 9 ~{MCLR} (in), 10 REFIN/OUT (io), 11 AGND (power), 12 F2 (in), 13 F1 (in), 14 F0 (in), 15 G1 (in), 16 G0 (in), 17 OSC1, 18 OSC2, 19 NC, 20 NEG (out), 21 DGND (power), 22 HFOUT (out), 23 FOUT1 (out), 24 FOUT0 (out)

## MCP3905AT-I/SSRA1
designator U?
Energy Metering ICs with Active Real Power Pulse Output, 24-Pin SSOP 208mil, Industrial Temperature, Tape and Reel; ComponentAvailability: Unknown. Contact manufacturer to determine status.; Published: 29-Jan-2009; DatasheetVersion: revA, Sep-2006; PackageVersion: revBB, Aug-2009; PackageReference: SSOP-SS24; Publisher: Altium Limited; PackageDescription: 24-Lead Plastic Shrink Small Outline (SS) - 5.3mm Body [SSOP]; Code_JEDEC: MO-150-AG; Code_IPC: SOP65P780-24; ComponentLink1Description: Datasheet; ComponentLink1URL: http://ww1.microchip.com/downloads/en/DeviceDoc/22011a.pdf; ComponentLink2Description: Packaging Specification; ComponentLink2URL: http://www.microchip.com/stellent/groups/techpub_sg/documents/packagingspec/en012702.pdf; ComponentLink3Description: Microchip.com Home; ComponentLink3URL: http://www.microchip.com/
footprint SSOP-SS24_N (SOP, 24-Leads, Body 8.2x5.3mm, Pitch 0.65mm, IPC Medium Density)
footprint SSOP-SS24_L (SOP, 24-Leads, Body 8.2x5.3mm, Pitch 0.65mm, IPC High Density)
footprint SSOP-SS24_M (SOP, 24-Leads, Body 8.2x5.3mm, Pitch 0.65mm, IPC Low Density)
pins: 1 DVDD (power), 2 HPF (in), 3 AVDD (power), 4 NC, 5 CH0+ (in), 6 CH0- (in), 7 CH1- (in), 8 CH1+ (in), 9 ~{MCLR} (in), 10 REFIN/OUT (io), 11 AGND (power), 12 F2 (in), 13 F1 (in), 14 F0 (in), 15 G1 (in), 16 G0 (in), 17 OSC1, 18 OSC2, 19 NC, 20 NEG (out), 21 DGND (power), 22 HFOUT (out), 23 FOUT1 (out), 24 FOUT0 (out)

## MCP3905L-I/SS
designator U?
Energy Metering ICs with Active Real Power Pulse Output, 24-Pin SSOP 208mil, Industrial Temperature; Published: 29-Jan-2009; DatasheetVersion: revA, Sep-2006; PackageVersion: revBB, Aug-2009; PackageReference: SSOP-SS24; Publisher: Altium Limited; PackageDescription: 24-Lead Plastic Shrink Small Outline (SS) - 5.3mm Body [SSOP]; Supplier 1: Digi-Key; Supplier Part Number 1: MCP3905L-I/SS-ND; Code_JEDEC: MO-150-AG; Code_IPC: SOP65P780-24; ComponentLink1Description: Datasheet; ComponentLink1URL: http://ww1.microchip.com/downloads/en/DeviceDoc/22011a.pdf; ComponentLink2Description: Packaging Specification; ComponentLink2URL: http://www.microchip.com/stellent/groups/techpub_sg/documents/packagingspec/en012702.pdf; ComponentLink3Description: Microchip.com Home; ComponentLink3URL: http://www.microchip.com/
footprint SSOP-SS24_N (SOP, 24-Leads, Body 8.2x5.3mm, Pitch 0.65mm, IPC Medium Density)
footprint SSOP-SS24_L (SOP, 24-Leads, Body 8.2x5.3mm, Pitch 0.65mm, IPC High Density)
footprint SSOP-SS24_M (SOP, 24-Leads, Body 8.2x5.3mm, Pitch 0.65mm, IPC Low Density)
pins: 1 DVDD (power), 2 HPF (in), 3 AVDD (power), 4 NC, 5 CH0+ (in), 6 CH0- (in), 7 CH1- (in), 8 CH1+ (in), 9 ~{MCLR} (in), 10 REFIN/OUT (io), 11 AGND (power), 12 F2 (in), 13 F1 (in), 14 F0 (in), 15 G1 (in), 16 G0 (in), 17 OSC1, 18 OSC2, 19 NC, 20 NEG (out), 21 DGND (power), 22 HFOUT (out), 23 FOUT1 (out), 24 FOUT0 (out)

## MCP3905L-I/SSRA1
designator U?
Energy Metering ICs with Active Real Power Pulse Output, 24-Pin SSOP 208mil, Industrial Temperature; ComponentAvailability: Unknown. Contact manufacturer to determine status.; Published: 29-Jan-2009; DatasheetVersion: revA, Sep-2006; PackageVersion: revBB, Aug-2009; PackageReference: SSOP-SS24; Publisher: Altium Limited; PackageDescription: 24-Lead Plastic Shrink Small Outline (SS) - 5.3mm Body [SSOP]; Code_JEDEC: MO-150-AG; Code_IPC: SOP65P780-24; ComponentLink1Description: Datasheet; ComponentLink1URL: http://ww1.microchip.com/downloads/en/DeviceDoc/22011a.pdf; ComponentLink2Description: Packaging Specification; ComponentLink2URL: http://www.microchip.com/stellent/groups/techpub_sg/documents/packagingspec/en012702.pdf; ComponentLink3Description: Microchip.com Home; ComponentLink3URL: http://www.microchip.com/
footprint SSOP-SS24_N (SOP, 24-Leads, Body 8.2x5.3mm, Pitch 0.65mm, IPC Medium Density)
footprint SSOP-SS24_L (SOP, 24-Leads, Body 8.2x5.3mm, Pitch 0.65mm, IPC High Density)
footprint SSOP-SS24_M (SOP, 24-Leads, Body 8.2x5.3mm, Pitch 0.65mm, IPC Low Density)
pins: 1 DVDD (power), 2 HPF (in), 3 AVDD (power), 4 NC, 5 CH0+ (in), 6 CH0- (in), 7 CH1- (in), 8 CH1+ (in), 9 ~{MCLR} (in), 10 REFIN/OUT (io), 11 AGND (power), 12 F2 (in), 13 F1 (in), 14 F0 (in), 15 G1 (in), 16 G0 (in), 17 OSC1, 18 OSC2, 19 NC, 20 NEG (out), 21 DGND (power), 22 HFOUT (out), 23 FOUT1 (out), 24 FOUT0 (out)

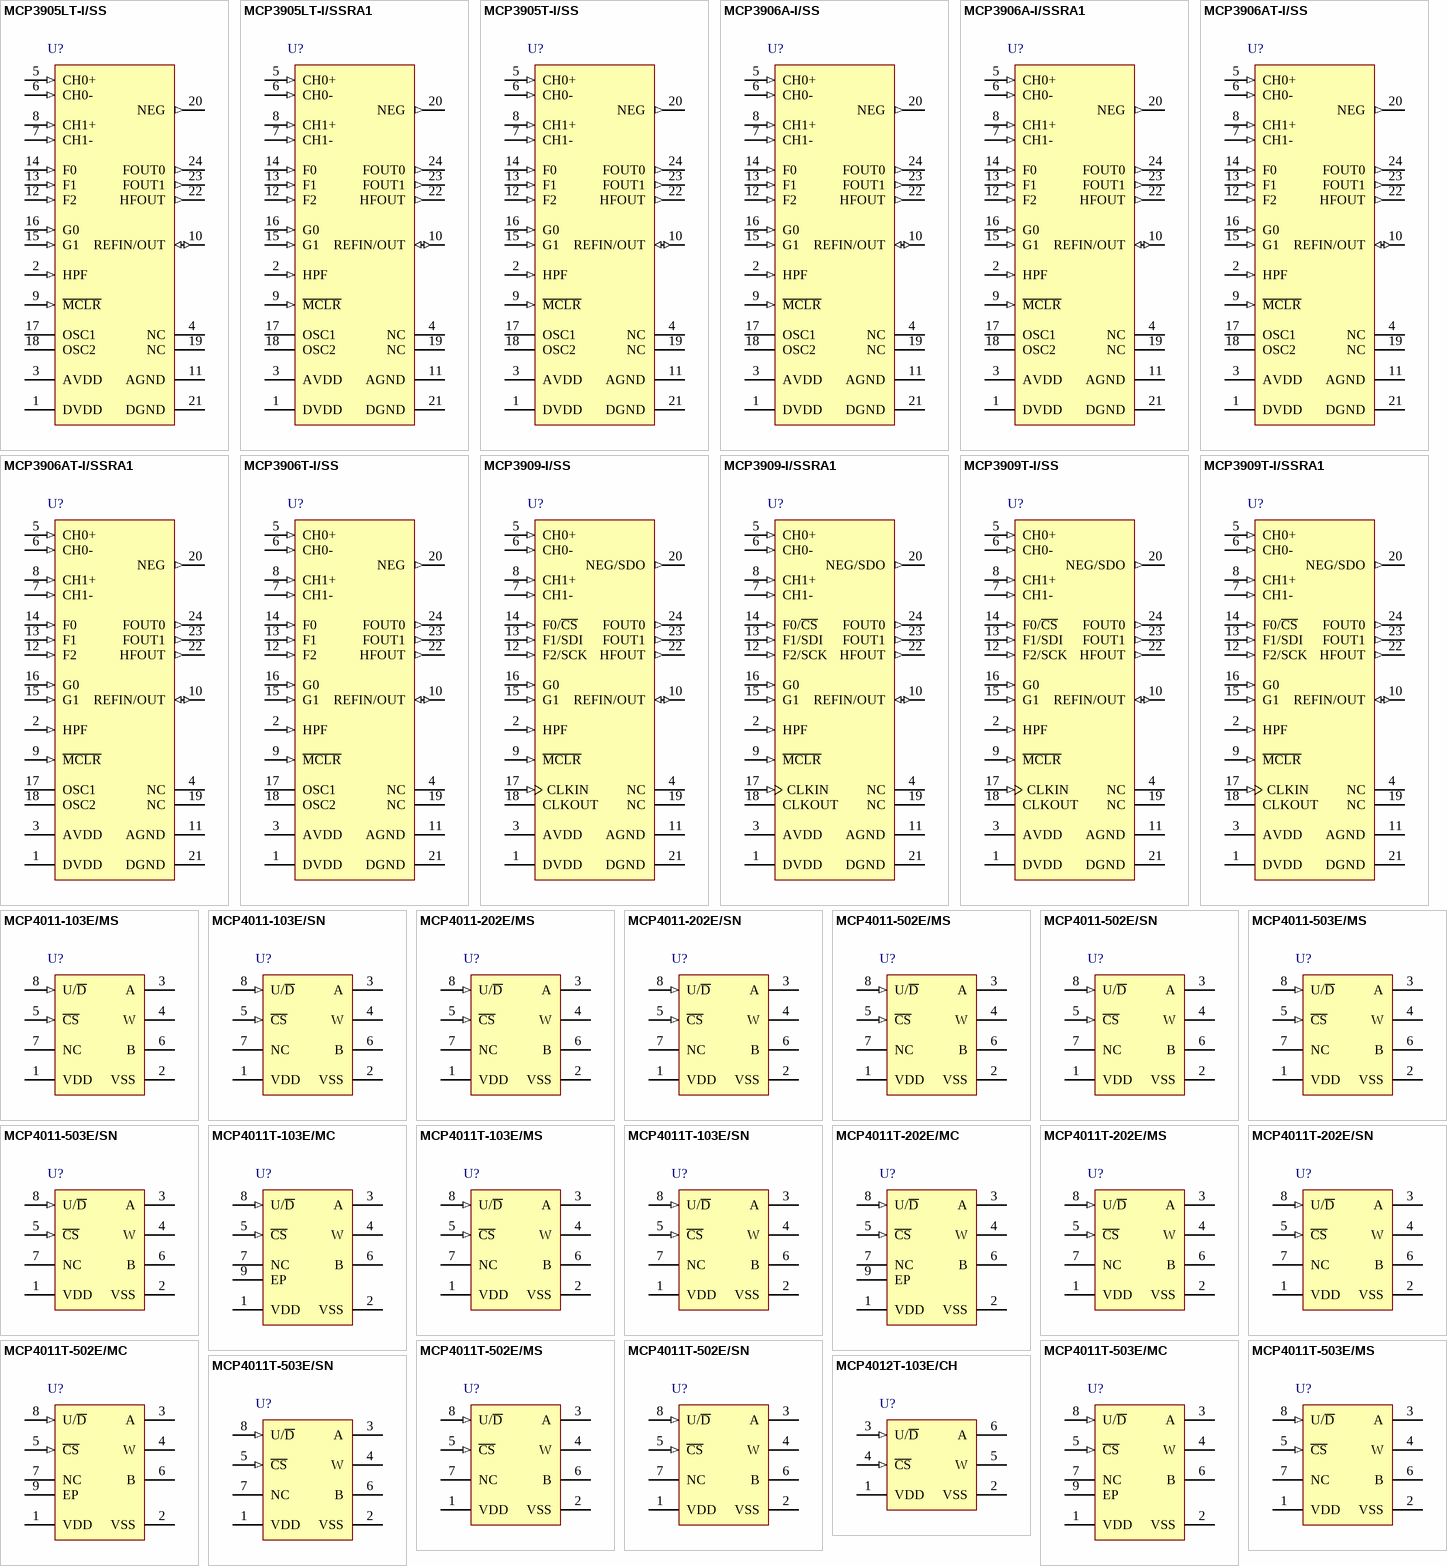
[diagram p5: symbols MCP3905LT-I/SS to MCP4012T-103E/CH]

## MCP3905LT-I/SS
designator U?
Energy-Metering ICs with Active (Real) Power Pulse Output, 24-Pin SSOP 208mil, Industrial Temperature, Tape and Reel; ComponentAvailability: Unknown. Contact manufacturer to determine status.; Published: 29-Jan-2009; LatestRevisionDate: 02-Dec-2009; LatestRevisionNote: Updated to datasheet revision E, Jun-2009; DatasheetVersion: revE, Jun-2009; PackageVersion: revBB, Aug-2009; PackageReference: SSOP-SS24; Publisher: Altium Limited; PackageDescription: 24-Lead Plastic Shrink Small Outline (SS) - 5.3mm Body [SSOP]; Supplier 1: Digi-Key; Supplier Part Number 1: MCP3905LT-I/SSTR-ND; Code_JEDEC: MO-150-AG; Code_IPC: SOP65P780-24; ComponentLink1Description: Datasheet; ComponentLink1URL: http://ww1.microchip.com/downloads/en/DeviceDoc/21948e.pdf; ComponentLink2Description: Packaging Specification; ComponentLink2URL: http://www.microchip.com/stellent/groups/techpub_sg/documents/packagingspec/en012702.pdf; ComponentLink3Description: Microchip.com Home; ComponentLink3URL: http://www.microchip.com/
footprint SSOP-SS24_N (SOP, 24-Leads, Body 8.2x5.3mm, Pitch 0.65mm, IPC Medium Density)
footprint SSOP-SS24_L (SOP, 24-Leads, Body 8.2x5.3mm, Pitch 0.65mm, IPC High Density)
footprint SSOP-SS24_M (SOP, 24-Leads, Body 8.2x5.3mm, Pitch 0.65mm, IPC Low Density)
pins: 1 DVDD (power), 2 HPF (in), 3 AVDD (power), 4 NC, 5 CH0+ (in), 6 CH0- (in), 7 CH1- (in), 8 CH1+ (in), 9 ~{MCLR} (in), 10 REFIN/OUT (io), 11 AGND (power), 12 F2 (in), 13 F1 (in), 14 F0 (in), 15 G1 (in), 16 G0 (in), 17 OSC1, 18 OSC2, 19 NC, 20 NEG (out), 21 DGND (power), 22 HFOUT (out), 23 FOUT1 (out), 24 FOUT0 (out)

## MCP3905LT-I/SSRA1
designator U?
Energy Metering ICs with Active Real Power Pulse Output, 24-Pin SSOP 208mil, Industrial Temperature, Tape and Reel; Published: 29-Jan-2009; DatasheetVersion: revA, Sep-2006; PackageVersion: revBB, Aug-2009; PackageReference: SSOP-SS24; Publisher: Altium Limited; PackageDescription: 24-Lead Plastic Shrink Small Outline (SS) - 5.3mm Body [SSOP]; Code_JEDEC: MO-150-AG; Code_IPC: SOP65P780-24; ComponentLink1Description: Datasheet; ComponentLink1URL: http://ww1.microchip.com/downloads/en/DeviceDoc/22011a.pdf; ComponentLink2Description: Packaging Specification; ComponentLink2URL: http://www.microchip.com/stellent/groups/techpub_sg/documents/packagingspec/en012702.pdf; ComponentLink3Description: Microchip.com Home; ComponentLink3URL: http://www.microchip.com/
footprint SSOP-SS24_N (SOP, 24-Leads, Body 8.2x5.3mm, Pitch 0.65mm, IPC Medium Density)
footprint SSOP-SS24_L (SOP, 24-Leads, Body 8.2x5.3mm, Pitch 0.65mm, IPC High Density)
footprint SSOP-SS24_M (SOP, 24-Leads, Body 8.2x5.3mm, Pitch 0.65mm, IPC Low Density)
pins: 1 DVDD (power), 2 HPF (in), 3 AVDD (power), 4 NC, 5 CH0+ (in), 6 CH0- (in), 7 CH1- (in), 8 CH1+ (in), 9 ~{MCLR} (in), 10 REFIN/OUT (io), 11 AGND (power), 12 F2 (in), 13 F1 (in), 14 F0 (in), 15 G1 (in), 16 G0 (in), 17 OSC1, 18 OSC2, 19 NC, 20 NEG (out), 21 DGND (power), 22 HFOUT (out), 23 FOUT1 (out), 24 FOUT0 (out)

## MCP3905T-I/SS
designator U?
Energy-Metering ICs with Active (Real) Power Pulse Output, 24-Pin SSOP 208mil, Industrial Temperature, Tape and Reel; ComponentAvailability: Unknown. Contact manufacturer to determine status.; Published: 29-Jan-2009; LatestRevisionDate: 02-Dec-2009; LatestRevisionNote: Updated to datasheet revision E, Jun-2009; DatasheetVersion: revE, Jun-2009; PackageVersion: revBB, Aug-2009; PackageReference: SSOP-SS24; Publisher: Altium Limited; PackageDescription: 24-Lead Plastic Shrink Small Outline (SS) - 5.3mm Body [SSOP]; Supplier 1: Digi-Key; Supplier Part Number 1: MCP3905T-I/SS-ND; Code_JEDEC: MO-150-AG; Code_IPC: SOP65P780-24; ComponentLink1Description: Datasheet; ComponentLink1URL: http://ww1.microchip.com/downloads/en/DeviceDoc/21948e.pdf; ComponentLink2Description: Packaging Specification; ComponentLink2URL: http://www.microchip.com/stellent/groups/techpub_sg/documents/packagingspec/en012702.pdf; ComponentLink3Description: Microchip.com Home; ComponentLink3URL: http://www.microchip.com/
footprint SSOP-SS24_N (SOP, 24-Leads, Body 8.2x5.3mm, Pitch 0.65mm, IPC Medium Density)
footprint SSOP-SS24_L (SOP, 24-Leads, Body 8.2x5.3mm, Pitch 0.65mm, IPC High Density)
footprint SSOP-SS24_M (SOP, 24-Leads, Body 8.2x5.3mm, Pitch 0.65mm, IPC Low Density)
pins: 1 DVDD (power), 2 HPF (in), 3 AVDD (power), 4 NC, 5 CH0+ (in), 6 CH0- (in), 7 CH1- (in), 8 CH1+ (in), 9 ~{MCLR} (in), 10 REFIN/OUT (io), 11 AGND (power), 12 F2 (in), 13 F1 (in), 14 F0 (in), 15 G1 (in), 16 G0 (in), 17 OSC1, 18 OSC2, 19 NC, 20 NEG (out), 21 DGND (power), 22 HFOUT (out), 23 FOUT1 (out), 24 FOUT0 (out)

## MCP3906A-I/SS
designator U?
Energy Metering ICs with Active Real Power Pulse Output, 24-Pin SSOP 208mil, Industrial Temperature; Published: 29-Jan-2009; DatasheetVersion: revA, Sep-2006; PackageVersion: revBB, Aug-2009; PackageReference: SSOP-SS24; Publisher: Altium Limited; PackageDescription: 24-Lead Plastic Shrink Small Outline (SS) - 5.3mm Body [SSOP]; Supplier 1: Digi-Key; Supplier Part Number 1: MCP3906A-I/SS-ND; Supplier 2: Farnell; Supplier Part Number 2: 1439399; Code_JEDEC: MO-150-AG; Code_IPC: SOP65P780-24; ComponentLink1Description: Datasheet; ComponentLink1URL: http://ww1.microchip.com/downloads/en/DeviceDoc/22011a.pdf; ComponentLink2Description: Packaging Specification; ComponentLink2URL: http://www.microchip.com/stellent/groups/techpub_sg/documents/packagingspec/en012702.pdf; ComponentLink3Description: Microchip.com Home; ComponentLink3URL: http://www.microchip.com/
footprint SSOP-SS24_N (SOP, 24-Leads, Body 8.2x5.3mm, Pitch 0.65mm, IPC Medium Density)
footprint SSOP-SS24_L (SOP, 24-Leads, Body 8.2x5.3mm, Pitch 0.65mm, IPC High Density)
footprint SSOP-SS24_M (SOP, 24-Leads, Body 8.2x5.3mm, Pitch 0.65mm, IPC Low Density)
pins: 1 DVDD (power), 2 HPF (in), 3 AVDD (power), 4 NC, 5 CH0+ (in), 6 CH0- (in), 7 CH1- (in), 8 CH1+ (in), 9 ~{MCLR} (in), 10 REFIN/OUT (io), 11 AGND (power), 12 F2 (in), 13 F1 (in), 14 F0 (in), 15 G1 (in), 16 G0 (in), 17 OSC1, 18 OSC2, 19 NC, 20 NEG (out), 21 DGND (power), 22 HFOUT (out), 23 FOUT1 (out), 24 FOUT0 (out)

## MCP3906A-I/SSRA1
designator U?
Energy Metering ICs with Active Real Power Pulse Output, 24-Pin SSOP 208mil, Industrial Temperature; ComponentAvailability: Unknown. Contact manufacturer to determine status.; Published: 29-Jan-2009; DatasheetVersion: revA, Sep-2006; PackageVersion: revBB, Aug-2009; PackageReference: SSOP-SS24; Publisher: Altium Limited; PackageDescription: 24-Lead Plastic Shrink Small Outline (SS) - 5.3mm Body [SSOP]; Code_JEDEC: MO-150-AG; Code_IPC: SOP65P780-24; ComponentLink1Description: Datasheet; ComponentLink1URL: http://ww1.microchip.com/downloads/en/DeviceDoc/22011a.pdf; ComponentLink2Description: Packaging Specification; ComponentLink2URL: http://www.microchip.com/stellent/groups/techpub_sg/documents/packagingspec/en012702.pdf; ComponentLink3Description: Microchip.com Home; ComponentLink3URL: http://www.microchip.com/
footprint SSOP-SS24_N (SOP, 24-Leads, Body 8.2x5.3mm, Pitch 0.65mm, IPC Medium Density)
footprint SSOP-SS24_L (SOP, 24-Leads, Body 8.2x5.3mm, Pitch 0.65mm, IPC High Density)
footprint SSOP-SS24_M (SOP, 24-Leads, Body 8.2x5.3mm, Pitch 0.65mm, IPC Low Density)
pins: 1 DVDD (power), 2 HPF (in), 3 AVDD (power), 4 NC, 5 CH0+ (in), 6 CH0- (in), 7 CH1- (in), 8 CH1+ (in), 9 ~{MCLR} (in), 10 REFIN/OUT (io), 11 AGND (power), 12 F2 (in), 13 F1 (in), 14 F0 (in), 15 G1 (in), 16 G0 (in), 17 OSC1, 18 OSC2, 19 NC, 20 NEG (out), 21 DGND (power), 22 HFOUT (out), 23 FOUT1 (out), 24 FOUT0 (out)

## MCP3906AT-I/SS
designator U?
Energy Metering ICs with Active Real Power Pulse Output, 24-Pin SSOP 208mil, Industrial Temperature, Tape and Reel; Published: 29-Jan-2009; DatasheetVersion: revA, Sep-2006; PackageVersion: revBB, Aug-2009; PackageReference: SSOP-SS24; Publisher: Altium Limited; PackageDescription: 24-Lead Plastic Shrink Small Outline (SS) - 5.3mm Body [SSOP]; Supplier 1: Digi-Key; Supplier Part Number 1: MCP3906AT-I/SS-ND; Code_JEDEC: MO-150-AG; Code_IPC: SOP65P780-24; ComponentLink1Description: Datasheet; ComponentLink1URL: http://ww1.microchip.com/downloads/en/DeviceDoc/22011a.pdf; ComponentLink2Description: Packaging Specification; ComponentLink2URL: http://www.microchip.com/stellent/groups/techpub_sg/documents/packagingspec/en012702.pdf; ComponentLink3Description: Microchip.com Home; ComponentLink3URL: http://www.microchip.com/
footprint SSOP-SS24_N (SOP, 24-Leads, Body 8.2x5.3mm, Pitch 0.65mm, IPC Medium Density)
footprint SSOP-SS24_L (SOP, 24-Leads, Body 8.2x5.3mm, Pitch 0.65mm, IPC High Density)
footprint SSOP-SS24_M (SOP, 24-Leads, Body 8.2x5.3mm, Pitch 0.65mm, IPC Low Density)
pins: 1 DVDD (power), 2 HPF (in), 3 AVDD (power), 4 NC, 5 CH0+ (in), 6 CH0- (in), 7 CH1- (in), 8 CH1+ (in), 9 ~{MCLR} (in), 10 REFIN/OUT (io), 11 AGND (power), 12 F2 (in), 13 F1 (in), 14 F0 (in), 15 G1 (in), 16 G0 (in), 17 OSC1, 18 OSC2, 19 NC, 20 NEG (out), 21 DGND (power), 22 HFOUT (out), 23 FOUT1 (out), 24 FOUT0 (out)

## MCP3906AT-I/SSRA1
designator U?
Energy Metering ICs with Active Real Power Pulse Output, 24-Pin SSOP 208mil, Industrial Temperature, Tape and Reel; ComponentAvailability: Unknown. Contact manufacturer to determine status.; Published: 29-Jan-2009; DatasheetVersion: revA, Sep-2006; PackageVersion: revBB, Aug-2009; PackageReference: SSOP-SS24; Publisher: Altium Limited; PackageDescription: 24-Lead Plastic Shrink Small Outline (SS) - 5.3mm Body [SSOP]; Code_JEDEC: MO-150-AG; Code_IPC: SOP65P780-24; ComponentLink1Description: Datasheet; ComponentLink1URL: http://ww1.microchip.com/downloads/en/DeviceDoc/22011a.pdf; ComponentLink2Description: Packaging Specification; ComponentLink2URL: http://www.microchip.com/stellent/groups/techpub_sg/documents/packagingspec/en012702.pdf; ComponentLink3Description: Microchip.com Home; ComponentLink3URL: http://www.microchip.com/
footprint SSOP-SS24_N (SOP, 24-Leads, Body 8.2x5.3mm, Pitch 0.65mm, IPC Medium Density)
footprint SSOP-SS24_L (SOP, 24-Leads, Body 8.2x5.3mm, Pitch 0.65mm, IPC High Density)
footprint SSOP-SS24_M (SOP, 24-Leads, Body 8.2x5.3mm, Pitch 0.65mm, IPC Low Density)
pins: 1 DVDD (power), 2 HPF (in), 3 AVDD (power), 4 NC, 5 CH0+ (in), 6 CH0- (in), 7 CH1- (in), 8 CH1+ (in), 9 ~{MCLR} (in), 10 REFIN/OUT (io), 11 AGND (power), 12 F2 (in), 13 F1 (in), 14 F0 (in), 15 G1 (in), 16 G0 (in), 17 OSC1, 18 OSC2, 19 NC, 20 NEG (out), 21 DGND (power), 22 HFOUT (out), 23 FOUT1 (out), 24 FOUT0 (out)

## MCP3906T-I/SS
designator U?
Energy-Metering ICs with Active (Real) Power Pulse Output, 24-Pin SSOP 208mil, Industrial Temperature, Tape and Reel; ComponentAvailability: Unknown. Contact manufacturer to determine status.; Published: 29-Jan-2009; LatestRevisionDate: 02-Dec-2009; LatestRevisionNote: Updated to datasheet revision E, Jun-2009; DatasheetVersion: revE, Jun-2009; PackageVersion: revBB, Aug-2009; PackageReference: SSOP-SS24; Publisher: Altium Limited; PackageDescription: 24-Lead Plastic Shrink Small Outline (SS) - 5.3mm Body [SSOP]; Supplier 1: Digi-Key; Supplier Part Number 1: MCP3906T-I/SS-ND; Code_JEDEC: MO-150-AG; Code_IPC: SOP65P780-24; ComponentLink1Description: Datasheet; ComponentLink1URL: http://ww1.microchip.com/downloads/en/DeviceDoc/21948e.pdf; ComponentLink2Description: Packaging Specification; ComponentLink2URL: http://www.microchip.com/stellent/groups/techpub_sg/documents/packagingspec/en012702.pdf; ComponentLink3Description: Microchip.com Home; ComponentLink3URL: http://www.microchip.com/
footprint SSOP-SS24_N (SOP, 24-Leads, Body 8.2x5.3mm, Pitch 0.65mm, IPC Medium Density)
footprint SSOP-SS24_L (SOP, 24-Leads, Body 8.2x5.3mm, Pitch 0.65mm, IPC High Density)
footprint SSOP-SS24_M (SOP, 24-Leads, Body 8.2x5.3mm, Pitch 0.65mm, IPC Low Density)
pins: 1 DVDD (power), 2 HPF (in), 3 AVDD (power), 4 NC, 5 CH0+ (in), 6 CH0- (in), 7 CH1- (in), 8 CH1+ (in), 9 ~{MCLR} (in), 10 REFIN/OUT (io), 11 AGND (power), 12 F2 (in), 13 F1 (in), 14 F0 (in), 15 G1 (in), 16 G0 (in), 17 OSC1, 18 OSC2, 19 NC, 20 NEG (out), 21 DGND (power), 22 HFOUT (out), 23 FOUT1 (out), 24 FOUT0 (out)